# Altium schematic symbol library Schlib_Nixie.SchLib: 21 symbols
Pins are listed as number, name and electrical type; pins without a type are passive.

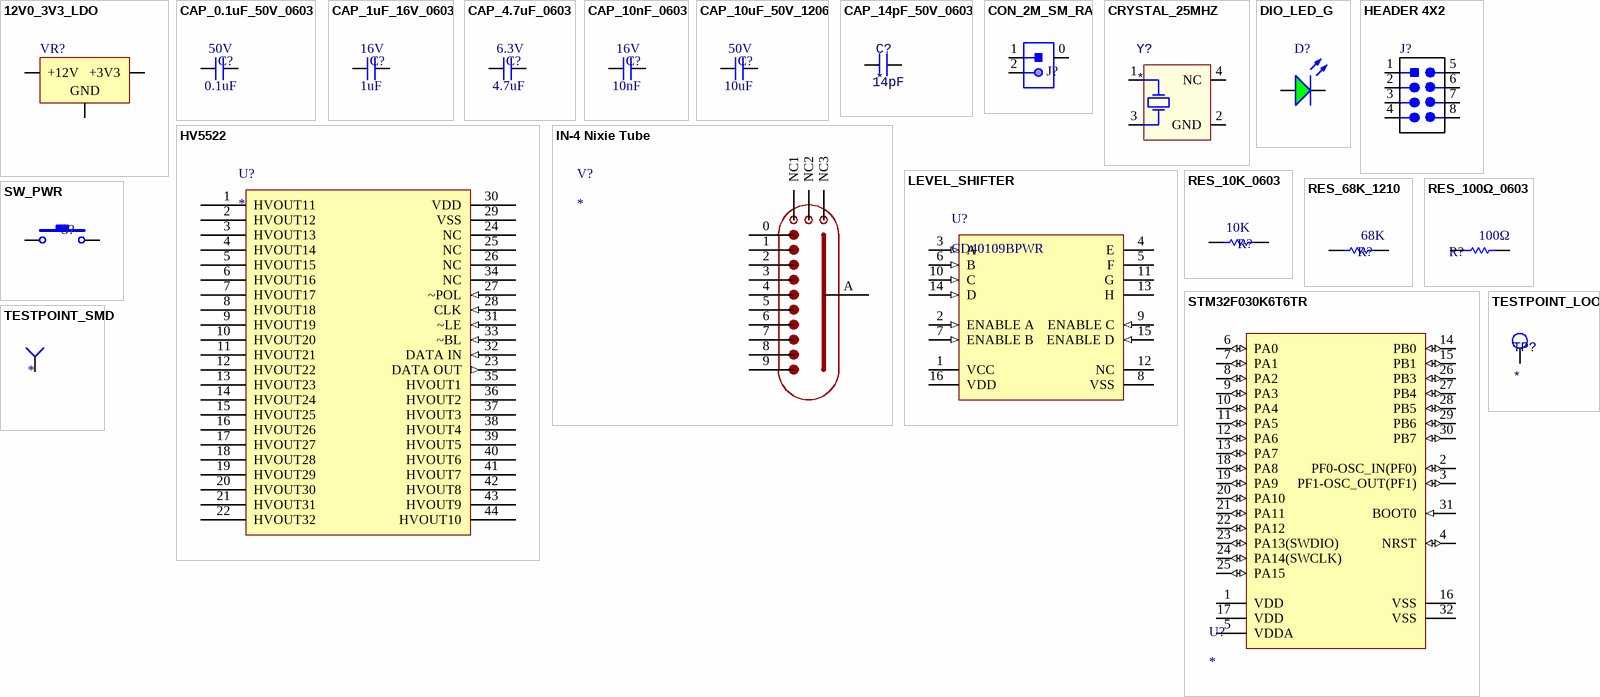
[diagram p0: symbols 12V0_3V3_LDO to TESTPOINT_SMD]

## 12V0_3V3_LDO
designator VR?
IC REG LINEAR 3.3V 1A DPAK; Manufacturer Part Number 1: NCP1117DT33T5G; Manufacturer 1: ON Semiconductor; Current Output: 1A; Supplier Part Number 1: NCP1117DT33T5GOSCT-ND; Supplier 1: Digi-Key; Mount: Surface Mount
footprint D2PAK_L (D2-PAK, 4-Leads, Body 8.8x10.4mm, Pitch 2.54mm, Lead Span 15.1mm, IPC High Density)
footprint D2PAK_M (D2-PAK, 4-Leads, Body 8.8x10.4mm, Pitch 2.54mm, Lead Span 15.1mm, IPC Low Density)
footprint VOLTAGE_REGULATOR (DPAK, 3-Leads, Body 6.095x6.54mm, Pitch 4.57mm)
pins: 1 GND, 2 +3V3, 3 +12V

## CAP_0.1uF_50V_0603
designator C?  value 0.1uF  Voltage Rating: 50V
CAP CER 0.1UF 50V X7R 0603; Manufacturer Part Number 1: CC0603KRX7R9BB104; Manufacturer 1: Yageo; Dimensions: 0.063" L x 0.031" W (1.60mm x 0.80mm); Package: 0603 (1608 Metric); Temperature Coefficient: X7R; Supplier Part Number 1: 311-1344-1-ND; Supplier 1: Digi-Key; Mount: Surface Mount
footprint CAPC0603(1608)55_N (Chip Capacitor, Body 1.6x0.8mm, Height 0.55mm, IPC Medium Density)
simulation model CAP (Capacitor)
signal-integrity model Cap
pins: 1, 2

## CAP_1uF_16V_0603
designator C?  value 1uF  Voltage Rating: 16V
CAP CER 1UF 16V Y5V 0603; Manufacturer Part Number: CC0603ZRY5V7BB105; Manufacturer 1: Yageo; Dimensions: 0.063" L x 0.031" W (1.60mm x 0.80mm); Package: 0603 (1608 Metric); Temperature Coefficient: Y5V; Supplier Part Number 1: 311-1372-1-ND; Supplier 1: Digi-Key; Mount: Surface Mount
simulation model CAP (Capacitor)
signal-integrity model Cap
footprint CAPC0603(1608)55_N (Chip Capacitor, Body 1.6x0.8mm, Height 0.55mm, IPC Medium Density)
pins: 1, 2

## CAP_4.7uF_0603
designator C?  value 4.7uF  Voltage Rating: 6.3V
CAP CER 4.7UF 6.3V X5R 0603; Manufacturer Part Number 1: CC0603KRX5R5BB475; Manufacturer 1: Yageo; Dimensions: 0.063" L x 0.031" W (1.60mm x 0.80mm); Package: 0603 (1608 Metric); Temperature Coefficient: X5R; Supplier Part Number 1: 311-1521-1-ND; Supplier 1: Digi-Key; Mount: Surface Mount
footprint CAPC0603(1608)55_N (Chip Capacitor, Body 1.6x0.8mm, Height 0.55mm, IPC Medium Density)
simulation model CAP (Capacitor)
signal-integrity model Cap
pins: 1, 2

## CAP_10nF_0603
designator C?  value 10nF  Voltage Rating: 16V
CAP CER 10000PF 16V X7R 0603; Manufacturer Part Number 1: CC0603KRX7R7BB103; Manufacturer 1: Yageo; Dimensions: 0.063" L x 0.031" W (1.60mm x 0.80mm); Package: 0603 (1608 Metric); Temperature Coefficient: X7R; Supplier Part Number 1: 311-3369-1-ND; Supplier 1: Digi-Key; Mount: Surface Mount
footprint CAPC0603(1608)55_N (Chip Capacitor, Body 1.6x0.8mm, Height 0.55mm, IPC Medium Density)
simulation model CAP (Capacitor)
signal-integrity model Cap
pins: 1, 2

## CAP_10uF_50V_1206
designator C?, comment Voltage Rating: 50V  (hidden comment: 10uF)
CAP CER 10UF 50V X5R 1206; Manufacturer Part Numer 1: GRT31CR61H106KE01L; Manufacturer 1: Murata; Dimensions: 0.126" L x 0.063" W (3.20mm x 1.6mm); Package: 1206 (3216 Metric); Supplier Part Number 1: 490-12456-1-ND; Supplier 1: Digi-Key; Mount: Surface Mount; Value: 10uF
simulation model CAP (Capacitor)
signal-integrity model Cap
footprint CAPC1206(3216) (Chip Capacitor, Body 3.2x1.6mm, Height 0.55mm, IPC Medium Density)
pins: 1, 2

## CAP_14pF_50V_0603
designator C?  value 14pF
CAP CER 14PF 50V C0G/NP0 0603; Manufacturer 1: Samsung; Manufacturer Part Number 1: CL10C140JB8NNNC; Tolerance: 5%; Dielectric: C0G; Supplier 1: Digi-Key; Stock 1: 187088; Pricing 1: 1=0.10000, 10=0.06700, 100=0.02980, 500=0.02130, 1000=0.01673 (USD); RoHS: Yes; Mount: Surface Mount; Case/Package: 0603; Case Code (Metric): 1608; Case Code (Imperial): 0603; Min Operating Temperature: -55°C; Max Operating Temperature: 125°C; Package Quantity: 1; Packaging: Tape and Reel; Voltage Rating: 50V; Voltage Rating (DC): 50V; Length: 1.6mm; Height: 0.8mm; Width: 0.031inch; Depth: 0.8mm; Thickness: 0.035inch; Radiation Hardening: No; ComponentLink1URL: https://datasheet.ciiva.com/25782/cl10c140jb8nnnc-25782947.pdf?src-supplier=Digi-Key; ComponentLink1Description: https://datasheet.ciiva.com/25782/cl10c140jb8nnnc-25782947.pdf?src-supplier=Digi-Key; Supplier Part Number 1: 1276-2187-1-ND; Capacitance: 14pF
footprint CAPC0603(1608)55_N (Chip Capacitor, Body 1.6x0.8mm, Height 0.55mm, IPC Medium Density)
pins: 1, 2

## CON_2M_SM_RA
designator J?  (value not drawn)
CONN HEADER SMD RIGHT ANGLE 2MM PITCH; Manufacturer 1: Molex; Manufacturer Part Number 1: 5024940270; Connector Type: Receptacle,Forked; Number of Positions: 2; Supplier 1: Digi-Key; Stock 1: 3397; Pricing 1: 1=0.53000, 10=0.49400, 25=0.44440, 50=0.39500, 100=0.37850, 250=0.34556 (USD); RoHS: No; Mount: Surface Mount; Contact Plating: Tin; Insulation Color: Natural; Insulation Material: Resin; Min Operating Temperature: -40°C; Max Operating Temperature: 105°C; Fastening Type: Latch; Packaging: Tape and Reel; Number of Rows: 1; Termination: Solder; Flammability Rating: UL94 V-0; ComponentLink1URL: https://www.molex.com/pdm_docs/as/AS-502439-002-001.pdf?src-supplier=Digi-Key; ComponentLink1Description: https://www.molex.com/pdm_docs/as/AS-502439-002-001.pdf?src-supplier=Digi-Key; Supplier Part Number 1: WM15810CT-ND
footprint MOLEX-5024940270 (Footprint not found)
pins: 0, 1, 2

## CRYSTAL_25MHZ
designator Y?
CRYSTAL 25.0000MHZ 12PF SMD; Manufacturer 1: Kyocera AVX; Manufacturer Part Number 1: CX2520DB25000H0FLJC1; Frequency: 25MHz; ESR (Equivalent Series Resistance): 80R; Frequency Stability: 15ppm; Frequency Tolerance: 10ppm; Supplier 1: Digi-Key; Stock 1: 11741; Pricing 1: 1=0.72000, 10=0.63300, 50=0.59120, 100=0.52250, 500=0.49500, 1000=0.41250 (USD); RoHS: Yes; Mount: Surface Mount; Case/Package: SMD/SMT; Min Operating Temperature: -30°C; Max Operating Temperature: 85°C; Packaging: Tape and Reel; Load Capacitance: 12pF; Length: 0.098inch; Height: 0.022inch; Width: 0.079inch; Ratings: AEC-Q200; ComponentLink1URL: https://media.digikey.com/pdf/Data%20Sheets/AVX%20PDFs/CX2520DB_USY1M-H1-16429-00_Spec.pdf?src-supplier=Digi-Key; ComponentLink1Description: https://media.digikey.com/pdf/Data%20Sheets/AVX%20PDFs/CX2520DB_USY1M-H1-16429-00_Spec.pdf?src-supplier=Digi-Key; Supplier Part Number 1: 1253-1724-1-ND
footprint AVX-CX2520DB32000D0GEJZ1-4_V (Hand Drawn, 4-Leads,Body 2.5x2mm)
pins: 1 HOT, 2 GND (power), 3 HOT, 4 NC

## DIO_LED_G
designator D?
LED GREEN DIFFUSED 0805 SMD; Manufacturer Part Number 1: LG R971-KN-1; Manufacturer 1: OSRAM; Forward Voltage Drop: 2.2V; Package: 0805 (2012 Metric); Supplier Part Number 1: 475-1410-1-ND; Supplier 1: Digi-Key; Mount: Surface Mount
footprint LED_0805_LINE (SMD, 2-Leads, Body 2x1.25mm)
simulation model LED1 (Diode)
pins: 1 A, 2 K

## HEADER 4X2
designator J?
CONN HEADER VERT 8POS 2.54MM; Manufacturer Part Number 1: M20-9980445; Manufacturer 1: Harwin Inc.; Supplier Part Number 1: 952-2122-ND; Supplier 1: Digi-Key; Mount: Through Hole
signal-integrity model Connector
footprint HEADER_2X4
footprint HEADER_2X4
pins: 1 VCC, 2, 3, 4, 5 GND, 6 2, 7 3, 8 4

## HV5522
designator U?
IC 32BIT SRL CMOS 220V 44QFP; Shift Shift Register 1 Element 32 Bit 44-PQFP (10x10); Manufacturer 1: Microchip Technology; Manufacturer Part Number 1: HV5522PG-G; Supplier 1: Digi-Key; Supplier Part Number 1: HV5522PG-G-ND
footprint QFP44A_M (Thin QFP, 44-Leads, Body 10x10mm, Pitch 0.8mm, IPC Low Density)
pins: 1 HVOUT11 (oc), 2 HVOUT12, 3 HVOUT13, 4 HVOUT14, 5 HVOUT15, 6 HVOUT16, 7 HVOUT17, 8 HVOUT18, 9 HVOUT19, 10 HVOUT20, 11 HVOUT21, 12 HVOUT22, 13 HVOUT23, 14 HVOUT24, 15 HVOUT25, 16 HVOUT26, 17 HVOUT27, 18 HVOUT28, 19 HVOUT29, 20 HVOUT30, 21 HVOUT31, 22 HVOUT32, 23 DATA OUT (out), 24 NC, 25 NC, 26 NC, 27 ~POL (in), 28 CLK (in), 29 VSS, 30 VDD (power), 31 ~LE (in), 32 DATA IN (in), 33 ~BL (in), 34 NC, 35 HVOUT1, 36 HVOUT2, 37 HVOUT3, 38 HVOUT4, 39 HVOUT5, 40 HVOUT6, 41 HVOUT7, 42 HVOUT8, 43 HVOUT9, 44 HVOUT10

## IN-4 Nixie Tube
designator V?
footprint IN-4
pins: 0 P8, 1, 2, 3, 4, 5, 6, 7, 8, 9, 10 NC1, 11 NC2, 12 NC3, A

## LEVEL_SHIFTER
designator U?, comment CD40109BPWR
CMOS Quad Low-to-High Voltage Level Shifter, 3 to 18 V, -55 to 125 degC, 16-Pin TSSOP (PW16), RoHS, Tape and Reel; Manufacturer: Texas Instruments; VSS: 3 to 18 V; Number of Bits: 4; Propagation Delay: 240 ns Max.; ComponentLink1Description: Manufacturer URL; ComponentLink3Description: Package Specification; ComponentLink3URL: http://www.ti.com/lit/ml/mpds361/mpds361.pdf; PackageDescription: 16-Pin Plastic Small Outline Package, Body 5 x 4.4 mm, Pitch 0.65 mm; DatasheetVersion: SCHS099B; Temperature Range: -55 to 125 degC; Mounting Technology: Surface Mount; Packing: Tape and Reel; RoHS: TRUE; Manufacturer Part Number 1: CD40109BPWR; ComponentLink2Description: Datasheet; Number of Outputs: 4; ComponentLink1URL: www.ti.com; Number of Channels: 4; Package Reference: PW0016A; PackageVersion: 4040064-4/G; ComponentLink2URL: http://www.ti.com/lit/ds/symlink/cd40109b.pdf; Supplier Part Number 1: 296-12163-1-ND; Supplier 1: Digi-Key; Manufacturer 1: Texas Instruments
footprint LVL_SHIFTER_PW0016A_M (SOP, 16-Leads, Body 5.1x4.5mm, Pitch 0.65mm, IPC Low Density)
pins: 1 VCC (power), 2 ENABLE A (in), 3 A (in), 4 E (hiz), 5 F (hiz), 6 B (in), 7 ENABLE B (in), 8 VSS (power), 9 ENABLE C (in), 10 C (in), 11 G (hiz), 12 NC, 13 H (hiz), 14 D (in), 15 ENABLE D (in), 16 VDD (power)

## RES_10K_0603
designator R?  value 10K
RES SMD 10K OHM 5% 1/10W 0603; Manufacturer 1: Yageo; Manufacturer Part Number 1: RC0603JR-0710KL; Package: 0603 (1608 Metric); Dimensions: 0.063" L x 0.031" W (1.60mm x 0.80mm); Tolerance: 5%; Supplier Part Number 1: 311-10KGRCT-ND; Supplier 1: Digi-Key; Mount: Surface Mount
footprint RESC0603(1608)_N (Chip Resistor, Body 1.6x0.8mm, IPC Medium Density)
simulation model RESISTOR (Resistor)
signal-integrity model Res
pins: 1, 2

## RES_68K_1210
designator R?  value 68K
RES SMD 68K OHM 1% 0.75W 1210; Manufacturer 1: TE Connectivity Passive Product; Manufacturer Part Number 1: CRGP1210F68K; Package: 1210; Tolerance: 1%; Supplier Part Number 1: A130621CT-ND; Supplier 1: Digi-Key; Mount: Surface Mount
simulation model RESISTOR (Resistor)
signal-integrity model Res
footprint RESC3225X60N
pins: 1, 2

## RES_100Ω_0603
designator R?  value 100Ω
RES SMD 100 OHM 1% 1/10W 0603; Manufacturer 1: Yageo; Manufacturer Part Number 1: RC0603FR-07100RL; Package: 0603 (1608 Metric); Dimensions: 0.063" L x 0.031" W (1.60mm x 0.80mm); Tolerance: 1%; Supplier Part Number 1: 311-100HRCT-ND; Supplier 1: Digi-Key; Mount: Surface Mount
footprint RESC0603(1608)_N (Chip Resistor, Body 1.6x0.8mm, IPC Medium Density)
simulation model RESISTOR (Resistor)
signal-integrity model Res
pins: 1, 2

## STM32F030K6T6TR
designator U?
STMICROELECTRONICS - STM32F030K6T6TR - ARM-MCU, STM32 Family STM32F0 Series Microcontrollers, ARM Cortex-M0, 32bit, 48 MHz, 32 KB, 4 KB; Memory Type: FLASH; Memory Size: 32KB; Data Bus Width: 32b; Max Frequency: 48MHz; RAM Size: 4KB; Number of ADC Channels: 12; Number of SPI Channels: 1; Operating Supply Voltage: 3.6V; Number of Timers/Counters: 5; Number of PWM Channels: 6; Supplier 1: Digi-Key; Manufacturer 1: STMicroelectronics; Manufacturer Part Number 1: STM32F030K6T6TR; RoHS: No; Category: Microcontrollers; Stock 1: 3095; Pricing 1: 1=1.44000, 10=1.28500, 25=1.21960, 100=1.00190, 250=0.93656, 500=0.82764, 1000=0.65340 (USD); Mount: Surface Mount; Case/Package: LQFP; Number of Pins: 32; Min Operating Temperature: -40°C; Max Operating Temperature: 85°C; Number of I2C Channels: 1; Core Architecture: ARM; Length: 7.2mm; Height: 1.45mm; Width: 7.2mm; Lead Free: Lead Free; ComponentLink1URL: http://www.farnell.com/datasheets/2815810.pdf?src-supplier=Farnell; ComponentLink1Description: http://www.farnell.com/datasheets/2815810.pdf?src-supplier=Farnell; ComponentLink2URL: http://www.st.com/content/ccc/resource/technical/document/datasheet/a4/5d/0b/0e/87/c4/4d/71/DM00088500.pdf/files/DM00088500.pdf/jcr:content/translations/en.DM00088500.pdf?src-supplier=Digi-Key; ComponentLink2Description: http://www.st.com/content/ccc/resource/technical/document/datasheet/a4/5d/0b/0e/87/c4/4d/71/DM00088500.pdf/files/DM00088500.pdf/jcr:content/translations/en.DM00088500.pdf?src-supplier=Digi-Key; ComponentLink3URL: http://www.st.com/content/ccc/resource/technical/document/user_manual/1d/d4/af/64/18/0d/42/2c/DM00111791.pdf/files/DM00111791.pdf/jcr:content/translations/en.DM00111791.pdf?src-supplier=Digi-Key; ComponentLink3Description: http://www.st.com/content/ccc/resource/technical/document/user_manual/1d/d4/af/64/18/0d/42/2c/DM00111791.pdf/files/DM00111791.pdf/jcr:content/translations/en.DM00111791.pdf?src-supplier=Digi-Key; ComponentLink4URL: http://www.farnell.com/datasheets/2815810.pdf?src-supplier=Element14; ComponentLink4Description: http://www.farnell.com/datasheets/2815810.pdf?src-supplier=Element14; ComponentLink5URL: http://www.farnell.com/datasheets/2815810.pdf?src-supplier=Newark; ComponentLink5Description: http://www.farnell.com/datasheets/2815810.pdf?src-supplier=Newark; Supplier Part Number 1: 497-17334-1-ND
footprint STM-LQFP32_M (QFP, 32-Leads, Body 7x7mm, Pitch 0.8mm, IPC Low Density)
pins: 1 VDD (power) "Digital power supply", 2 PF0-OSC_IN(PF0) (io) "PF0-OSC_IN(PF0)/OSC_IN", 3 PF1-OSC_OUT(PF1) (io) "PF1-OSC_OUT(PF1)/OSC_OUT", 4 NRST (io) "Device reset input/internal reset output(active low)", 5 VDDA (power) "Analog power supply", 6 PA0 (io) "PA0/USART1_CTS/ADC_IN0,RTC_TAMP2,WKUP1", 7 PA1 (io) "PA1/USART1_RTS,EVENTOUT/ADC_IN1", 8 PA2 (io) "PA2/USART1_TX/ADC_IN2", 9 PA3 (io) "PA3/USART1_RX/ADC_IN3", 10 PA4 (io) "PA4/SPI1_NSS,USART1_CK,TIM14_CH1/ADC_IN4", 11 PA5 (io) "PA5/SPI1_SCK/ADC_IN5", 12 PA6 (io) "PA6/SPI1_MISO,TIM3_CH1,TIM1_BKIN,TIM16_CH1,EVENTOUT/ADC_IN6", 13 PA7 (io) "PA7/SPI1_MOSI,TIM3_CH2,TIM14_CH1,TIM1_CH1N,TIM17_CH1,EVENTOUT/ADC_IN7", 14 PB0 (io) "PB0/TIM3_CH3,TIM1_CH2N,EVENTOUT/ADC_IN8", 15 PB1 (io) "PB1/TIM3_CH4,TIM14_CH1,TIM1_CH3N/ADC_IN9", 16 VSS (power) "Ground", 17 VDD (power) "Digital power supply", 18 PA8 (io) "PA8/USART1_CK,TIM1_CH1,EVENTOUT,MCO", 19 PA9 (io) "PA9/USART1_TX,TIM1_CH2", 20 PA10 (io) "PA10/USART1_RX,TIM1_CH3,TIM17_BKIN", 21 PA11 (io) "PA11/USART1_CTS,TIM1_CH4,EVENTOUT", 22 PA12 (io) "PA12/USART1_RTS,TIM1_ETR,EVENTOUT", 23 PA13(SWDIO) (io) "PA13(SWDIO)/IR_OUT,SWDIO", 24 PA14(SWCLK) (io) "PA14(SWCLK)/USART1_TX,SWCLK", 25 PA15 (io) "PA15/SPI1_NSS,USART1_RX,EVENTOUT", 26 PB3 (io) "PB3/SPI1_SCK,EVENTOUT", 27 PB4 (io) "PB4/SPI1_MISO,TIM3_CH1,EVENTOUT", 28 PB5 (io) "PB5/SPI1_MOSI,I2C1_SMBA,TIM16_BKIN,TIM3_CH2", 29 PB6 (io) "PB6/I2C1_SCL,USART1_TX,TIM16_CH1N", 30 PB7 (io) "PB7/I2C1_SDA,USART1_RX,TIM17_CH1N", 31 BOOT0 (in) "Boot memory selection", 32 VSS (power) "Ground"

## SW_PWR
designator S?
Power Switch (Red); Manufacturer Part Number 1: PTS830GM140 SMTR LFS; Manufacturer 1: C&K; ComponentLink1Description: Datasheet; ComponentLink1URL: https://www.ckswitches.com/media/1478/pts830.pdf; Supplier Part Number 1: CKN10587CT-ND; Supplier 1: Digi-Key; Mount: Surface Mount
footprint PTS830GM140 (PWR TACTILE SWITCH (RED)); pin to pad 2>4
pins: 1, 2

## TESTPOINT_LOOP
designator TP?
Loop testpoint through-hole pad; Manufacturer 1: Keystone Electronics; Manufacturer Part Number 1: 5002; Supplier Part Number 1: 36-5002-ND; Supplier 1: Digi-Key; Mount: Through Hole
footprint TESTPOINT_LOOP
pins: 1

## TESTPOINT_SMD
designator TP?
TESTPOINT_SMD; Part Number (MPN): *
footprint TESTPOINT
pins: 1 =value